# Altium footprint library TZMB16-GS08.PcbLib: 1 footprints
Each footprint in its own frame and in the unit in brackets; x right, y up, seen from the top. Pads: shape width x height; smd on the part's side, far side on the other; paste and mask are expansions set on the pad; w line width, h text height; cw(c..) or ccw(c..) is an arc to the next point about the centre after c.
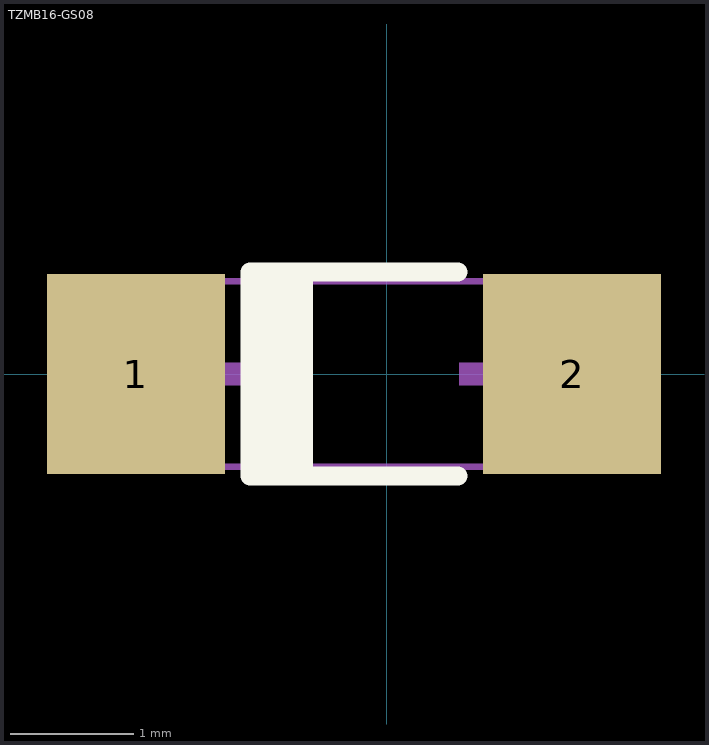
[diagram p0: the footprint, top view; thin cyan lines are the x and y axes]

## TZMB16-GS08 [mm]
pads (2):
  rect 1.44x1.62 smd paste+0 mask+0.051: 1(-2.032,0) 2(1.498,0)
Top Overlay:
  region: -1.109,0.801 -0.601,0.801 -0.601,-0.801 -1.109,-0.801
  lines w0.152: 0.575,-0.826 -1.109,-0.826 -1.109,0.826 0.575,0.826
Mechanical 6:
  region: 1.033,-0.6 1.033,0.6 0.853,0.6 0.853,-0.6
  region: 1.303,-0.09 1.303,0.09 0.583,0.09 0.583,-0.09
  region: -1.837,-0.09 -1.837,0.09 -1.117,0.09 -1.117,-0.09
Mechanical 15:
  region: 1.483,-0.75 1.483,0.75 1.013,0.75 1.013,-0.75
  region: -2.017,-0.75 -2.017,0.75 -1.547,0.75 -1.547,-0.75
  region: -1.957,-0.75 -1.958,-0.726 -1.993,-0.693 -2.041,-0.693 -2.076,-0.726 -2.077,-0.75 -2.076,-0.774 -2.041,-0.807 -1.993,-0.807 -1.958,-0.774 -1.957,-0.75
  lines w0.051: -2.017,-0.75 1.483,-0.75 1.483,0.75 -2.017,0.75 -2.017,-0.75